# Altium schematic symbol library IND-SM-0402-HF-15nH.Schlib: 1 symbol
Pins are listed as number, name and electrical type; pins without a type are passive.

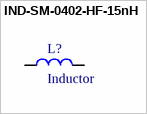
[diagram p0: symbol IND-SM-0402-HF-15nH]

## IND-SM-0402-HF-15nH
designator L?, comment Inductor
IND SM 0402 CHIP HF 15nH 10%
pins: 1, 2